# Altium schematic symbol library PRM113.SchLib: 1 symbol
Pins are listed as number, name and electrical type; pins without a type are passive.

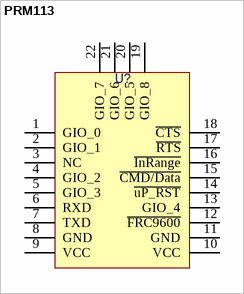
[diagram p0: symbol PRM113]

## PRM113
designator U?  (value not drawn)
pins: 1 GIO_0, 2 GIO_1, 3 NC, 4 GIO_2, 5 GIO_3, 6 RXD, 7 TXD, 8 GND, 9 VCC, 10 VCC, 11 GND, 12 ~{FRC9600}, 13 GIO_4, 14 ~{uP_RST}, 15 ~{CMD/Data}, 16 ~{InRange}, 17 ~{RTS}, 18 ~{CTS}, 19 GIO_8, 20 GIO_5, 21 GIO_6, 22 GIO_7
1 alternate drawing of the same symbol